# EAGLE library part TEMP_SENS (library temp_max30205)
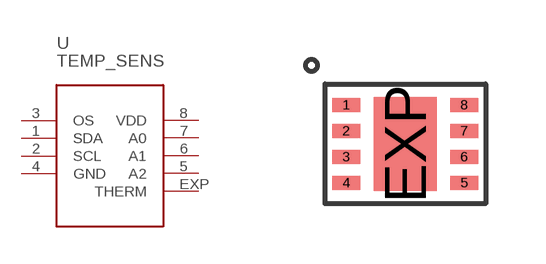
[diagram p0: symbol with the pads of MAX30205; footprint MAX30205]

Designator prefix -

## TEMP_SENS (DESCRIPTION: SWITCH TACTILE SPST-NO 0.05A 12V; LINK: https://www.digikey.com/product-detail/en/panasonic-electronic-components/EVQ-P7A01P/P16763TR-ND/4429447; MANUFACTURER: Maxim Integrated; MANUFACTURER_PART_NUM: MAX30205MTA+)  [MAX30205]
1  SDA
2  SCL
3  OS
4  GND
5  A2
6  A1
7  A0
8  VDD
EXP  THERM

## Footprint MAX30205 (pad centres in mm)
smd 0.7 x 0.35: 1 -1.475,0.975; 2 -1.475,0.325; 3 -1.475,-0.325; 4 -1.475,-0.975; 5 1.475,-0.975; 6 1.475,-0.325; 7 1.475,0.325; 8 1.475,0.975
smd 1.58 x 2.35: EXP 0,0